# Altium footprint library HANDS-FREEE-PcbLib-V1.11.PcbLib: 211 footprints (part 13 of 14)
Each footprint in its own frame and in the unit in brackets; x right, y up, seen from the top. Pads: shape width x height; smd on the part's side, far side on the other; paste and mask are expansions set on the pad; w line width, h text height; cw(c..) or ccw(c..) is an arc to the next point about the centre after c.
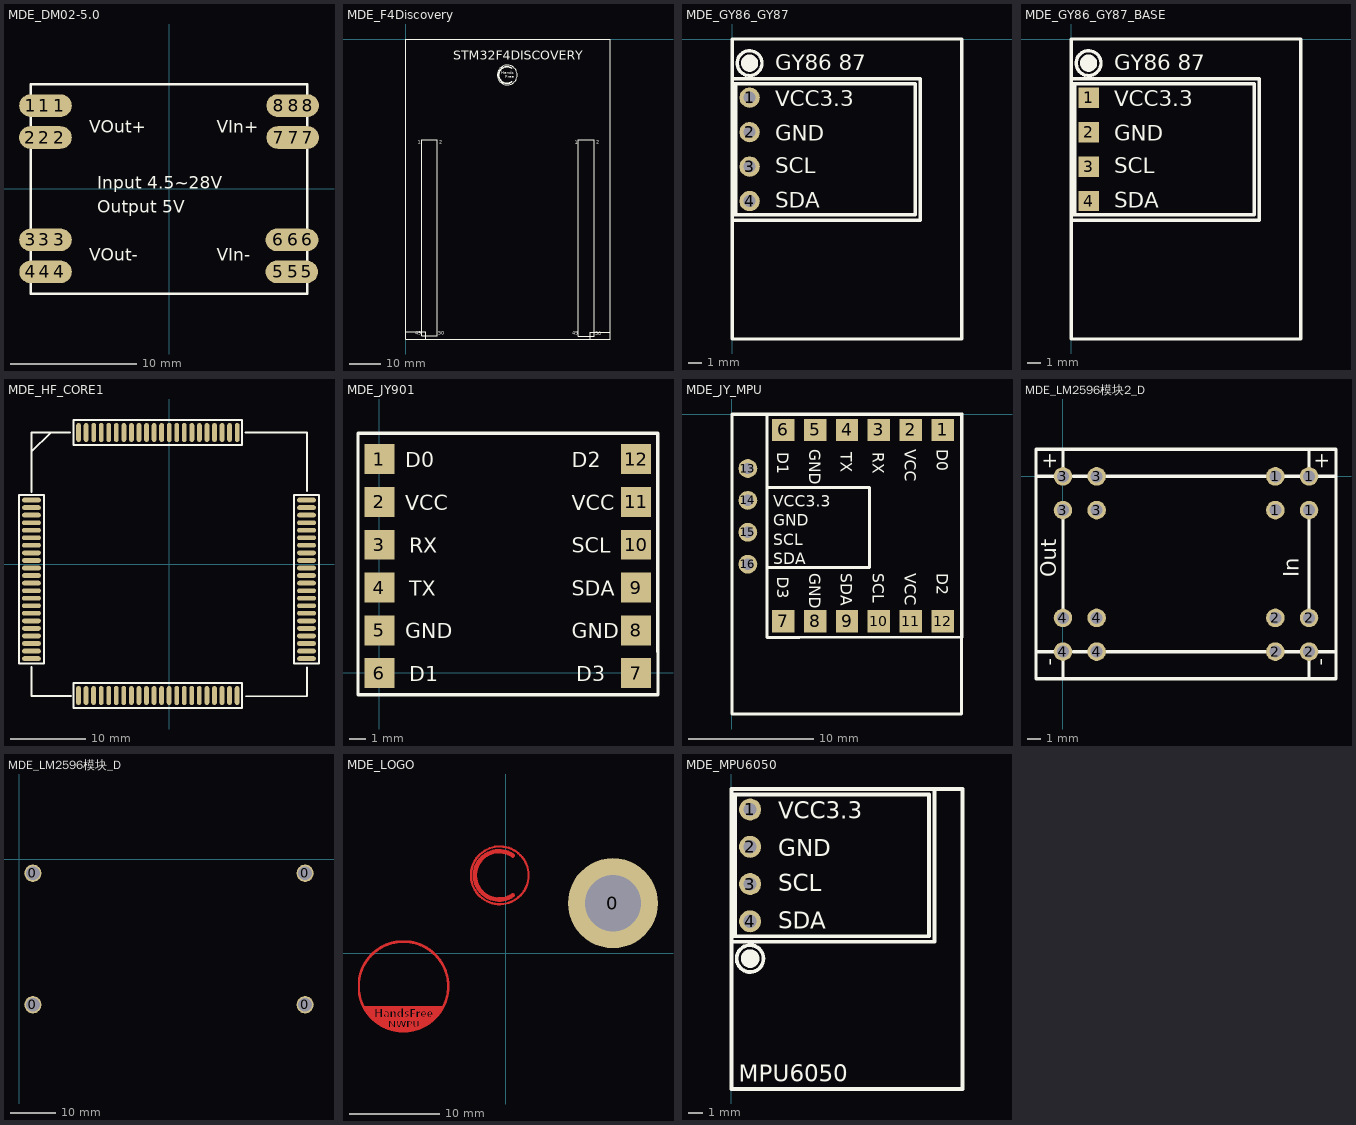
[diagram p12: the footprints below, top view; thin cyan lines are the x and y axes]

## MDE_DM02-5.0 [mm] "U?"
pads (24):
  round 1.8 smd: 1(-11.014,6.613) 2(-11.033,4.073) 3(-11.014,-4.073) 4(-11.013,-6.613) 5(10.959,-6.613) 6(10.982,-4.073) 7(11.033,4.073) 8(11.033,6.613)
  rect 2.2x1.8 smd: 1(-9.923,6.613) 2(-9.923,4.073) 3(-9.922,-4.073) 4(-9.897,-6.613) 5(9.867,-6.613) 6(9.867,-4.073) 7(9.937,4.073) 8(9.937,6.613)
  oval 2x1.8 smd: 1(-8.732,6.613) 2(-8.732,4.073) 3(-8.731,-4.073) 4(-8.731,-6.613) 5(8.678,-6.613) 6(8.678,-4.073) 7(8.748,4.073) 8(8.748,6.613)
Top Layer:
  lines w0.4: 8.748,4.113 9.389,3.471
Top Overlay:
  lines w0.2: 10.983,8.327 -11.014,8.327 -11.014,-8.373 10.986,-8.373 10.986,8.327
  text "VOut-" at -6.35,-5.715 h1
  text "VOut+" at -6.35,4.445 h1
  text "VIn-" at 3.81,-5.715 h1
  text "VIn+" at 3.81,4.445 h1
  text "Input 4.5~28V" at -5.715,0 h1
  text "Output 5V" at -5.715,-1.905 h1

## MDE_F4Discovery [mil]
Top Overlay:
  circle w10: c1290.81,-459 r126.19
  lines w7.87: 200,-3780 400,-3780 400,-1355 400,-1280 200,-1280 200,-1355 200,-3780 ; 2197,-3783 2197,-1358 2197,-1283 2397,-1283 2397,-1358 2397,-3783 2197,-3783
  lines w10: 0,-3730 249.21,-3730 ; 250,-3817.4 250,-3730 ; 2348,-3819.4 2348,-3732 2597.21,-3732 ; 0,-3820 0,0 2600,0 2600,-3820 0,-3820
  lines w20: 1347.87,-546.09 cw(c1287.7,-459.05) 1348.29,-372.3
  text "Hands" at 1212,-449 h35
  text "Free" at 1262,-499 h35
  text "1" at 150,-1352 h78.74
  text "2" at 422,-1352 h78.74
  text "49" at 2117,-3786 h78.74
  text "49" at 117,-3785 h78.74
  text "50" at 410,-3783 h78.74
  text "2" at 2422,-1353 h78.74
  text "1" at 2148,-1359 h78.74
  text "50" at 2409,-3789 h78.74
  text "STM32F4DISCOVERY" at 605,-301 h196.85

## MDE_GY86_GY87 [mil]
pads (4):
  round 59 hole 35.43: 1(50,-170) 2(50,-270) 3(50,-370) 4(50,-470)
Top Overlay:
  circle w10: c50,-70 r36.06
  circle w30: c50,-70 r10
  lines w10: 0,-525 545,-525 545,-115 0,-115 ; 0,-510 530,-510 530,-130 0,-130 ; 10,-510 10,-130 15,-130 ; 0,-870 0,0 665,0 665,-870 0,-870
  text "GY86 87" at 125,-90 h45
  text "SCL" at 125,-390 h45
  text "GND" at 125,-295 h45
  text "VCC3.3" at 125,-195 h45
  text "SDA" at 125,-490 h45

## MDE_GY86_GY87_BASE [mil]
pads (4):
  rect 59x59 smd: 1(50,-170) 2(50,-270) 3(50,-370) 4(50,-470)
Top Overlay:
  circle w10: c50,-70 r36.06
  circle w30: c50,-70 r10
  lines w10: 0,-525 545,-525 545,-115 0,-115 ; 0,-510 530,-510 530,-130 0,-130 ; 10,-510 10,-130 15,-130 ; 0,-870 0,0 665,0 665,-870 0,-870
  text "GY86 87" at 125,-90 h45
  text "SCL" at 125,-390 h45
  text "GND" at 125,-295 h45
  text "VCC3.3" at 125,-195 h45
  text "SDA" at 125,-490 h45

## MDE_HF_CORE1 [mil] "HANDS FREE核心板1代"
pads (88):
  oval 98.43x25 smd: 1(-717,333.49) 2(-717,294.12) 3(-717,254.75) 4(-717,215.38) 5(-717,176.01) 6(-717,136.64) 7(-717,97.27) 8(-717,57.9) 9(-717,18.53) 10(-717,-20.84) 11(-717,-60.21) 12(-717,-99.58) 13(-717,-138.95) 14(-717,-178.32) 15(-717,-217.69) 16(-717,-257.06) 17(-717,-296.43) 18(-717,-335.8) 19(-717,-375.17) 20(-717,-414.54) 21(-717,-453.91) 22(-717,-493.28) 45(717,-493.28) 46(717,-453.91) 47(717,-414.54) 48(717,-375.17) 49(717,-335.8) 50(717,-296.43) 51(717,-257.06) 52(717,-217.69) 53(717,-178.32) 54(717,-138.95) 55(717,-99.58) 56(717,-60.21) 57(717,-20.84) 58(717,18.53) 59(717,57.9) 60(717,97.27) 61(717,136.64) 62(717,176.01) 63(717,215.38) 64(717,254.75) 65(717,294.12) 66(717,333.49)
  oval 25x98.43 smd: 23(-471.77,-685.5) 24(-432.4,-685.5) 25(-393.03,-685.5) 26(-353.66,-685.5) 27(-314.29,-685.5) 28(-274.92,-685.5) 29(-235.55,-685.5) 30(-196.18,-685.5) 31(-156.81,-685.5) 32(-117.44,-685.5) 33(-78.07,-685.5) 34(-38.7,-685.5) 35(0.67,-685.5) 36(40.04,-685.5) 37(79.41,-685.5) 38(118.78,-685.5) 39(158.15,-685.5) 40(197.52,-685.5) 41(236.89,-685.5) 42(276.26,-685.5) 43(315.63,-685.5) 44(355,-685.5) 67(355.36,685.5) 68(315.99,685.5) 69(276.62,685.5) 70(237.25,685.5) 71(197.88,685.5) 72(158.51,685.5) 73(119.14,685.5) 74(79.77,685.5) 75(40.4,685.5) 76(1.03,685.5) 77(-38.34,685.5) 78(-77.71,685.5) 79(-117.08,685.5) 80(-156.45,685.5) 81(-195.82,685.5) 82(-235.19,685.5) 83(-274.56,685.5) 84(-313.93,685.5) 85(-353.3,685.5) 86(-392.67,685.5) 87(-432.04,685.5) 88(-471.41,685.5)
Top Overlay:
  lines w10: -754.5,-518.28 -652,-518.28 -652,359.72 -782,359.72 -782,-518.28 -717,-518.28 ; -717.87,-536.54 -717.87,-688.54 -509.87,-688.54 ; -716.87,375.46 -716.87,685.46 -514.87,685.46 ; -716.87,574.06 -716.87,585.46 -616.87,685.46 ; 380,-723 380,-620.5 -498,-620.5 -498,-750.5 380,-750.5 380,-685.5 ; 380.36,750.5 -497.64,750.5 -497.64,620.5 381.13,620.5 381.13,750.46 ; 399.13,685.46 720.13,685.46 720.13,379.46 ; 402.13,-689.54 720.13,-689.54 720.13,-539.54 ; 679.5,-518.28 782,-518.28 782,359.72 652,359.72 652,-518.28 717,-518.28

## MDE_JY901 [mil]
pads (12):
  rect 70x70 smd: 1(0.63,499.63) 2(0.63,399.63) 3(0.63,299.63) 4(0.63,199.63) 5(0.63,99.63) 6(0.63,-0.37) 7(600.63,-0.37) 8(600.63,99.63) 9(600.63,199.63) 10(600.63,299.63) 11(600.63,399.63) 12(600.63,499.63)
Top Overlay:
  lines w7.87: -49.37,49.63 -49.37,449.63 ; 650.63,449.63 650.63,49.63 651.63,49.63
  lines w8: -49.37,49.63 -49.37,-51.37 651.63,-51.37 651.63,49.63 ; -49.37,449.63 -49.37,560.63 650.63,560.63 650.63,449.63
  text "VCC" at 60.63,380.63 h35
  text "VCC" at 450.63,380.63 h35
  text "GND" at 60.63,80.63 h35
  text "GND" at 450.63,80.63 h35
  text "RX" at 70.63,280.63 h35
  text "TX" at 70.63,180.63 h35
  text "SDA" at 450.63,180.63 h35
  text "SCL" at 450.63,280.63 h35
  text "D0" at 60.63,480.63 h35
  text "D1" at 70.63,-19.37 h35
  text "D2" at 450.63,480.63 h35
  text "D3" at 460.63,-19.37 h35

## MDE_JY_MPU [mil]
pads (16):
  rect 70x70 smd: 1(661,-49) 2(561,-49) 3(461,-49) 4(361,-49) 5(261,-49) 6(161,-49) 7(161,-649) 8(261,-649) 9(361,-649) 10(461,-649) 11(561,-649) 12(661,-649)
  round 59 hole 35.43: 13(50,-170) 14(50,-270) 15(50,-370) 16(50,-470)
Top Overlay:
  lines w7.87: 211,-700 211,-699 611,-699 ; 211,1 611,1
  lines w8: 211,-700 110,-700 110,1 211,1 ; 611,-699 722,-699 722,1 611,1
  lines w10: 70,-940 0,-940 ; 110,-480 432,-480 432,-230 110,-230 ; 0,-940 0,0 720,0 720,-940 0,-940
  text "VCC" at 542,-109 h35
  text "VCC" at 542,-499 h35
  text "GND" at 242,-109 h35
  text "GND" at 242,-499 h35
  text "RX" at 442,-119 h35
  text "TX" at 342,-119 h35
  text "SDA" at 342,-499 h35
  text "SCL" at 442,-499 h35
  text "D0" at 642,-109 h35
  text "D1" at 142,-119 h35
  text "D2" at 642,-499 h35
  text "D3" at 142,-509 h35
  text "SCL" at 130,-410 h35
  text "GND" at 130,-350 h35
  text "VCC3.3" at 130,-290 h35
  text "SDA" at 130,-470 h35

## MDE_LM2596模块2_D [mil]
pads (16):
  round 55 hole 35.6: 1(630,-100) 1(630,0) 1(730,-100) 1(730,0) 2(630,-520) 2(630,-420) 2(730,-520) 2(730,-420) 3(0,-100) 3(0,0) 3(100,-100) 3(100,0) 4(0,-520) 4(0,-420) 4(100,-520) 4(100,-420)
Top Overlay:
  lines w10: -80,-520 0,-520 0,-600 ; -80,0 0,0 0,80 ; 0,-420 0,-100 ; 30,-520 730,-520 ; 30,0 730,0 ; 730,-600 730,-520 ; 730,-420 730,-100 ; 730,80 730,0 ; 810,-520 730,-520 ; 730,0 810,0 ; 810,0 810,-600 -80,-600 -80,80 810,80 810,0
  text "-" at 750,-540 h45
  text "-" at -20,-540 h45
  text "In" at 700,-300 h45
  text "Out" at -20,-300 h45
  text "+" at -20,20 h45
  text "+" at 750,20 h45

## MDE_LM2596模块_D [mil]
pads (4):
  round 150 hole 120: 0(120,-1260) 0(120,-120) 0(2480,-1260) 0(2480,-120)
Bottom Overlay:
  lines w10: 0,-1380 0,0 2600,0 2600,-1380 0,-1380

## MDE_LOGO [mm]
pads (1):
  round 10 hole 6.25: 0(11.938,5.537)
Top Layer:
  circle w0.254: c-0.64,8.636 r3.205
  lines w0.025: -16.383,-4.343 -16.18,-4.343 ; -16.383,-4.318 -16.18,-4.318 ; -16.383,-4.293 -16.18,-4.293 ; -16.383,-4.267 -16.18,-4.267 ; -16.383,-4.242 -16.18,-4.242 ; -16.383,-4.216 -16.18,-4.216 ; -16.383,-4.191 -16.18,-4.191 ; -16.383,-4.166 -16.18,-4.166 ; -16.383,-4.14 -16.205,-4.14 ; -16.383,-4.115 -16.205,-4.115 ; -16.383,-4.089 -16.205,-4.089 ; -16.383,-4.064 -16.205,-4.064 ; -16.383,-4.039 -16.205,-4.039 ; -16.383,-4.013 -16.205,-4.013 ; -16.383,-3.988 -16.205,-3.988 ; -16.383,-3.962 -16.205,-3.962 ; -16.383,-3.937 -16.205,-3.937 ; -16.383,-3.912 -16.205,-3.912 ; -16.383,-3.886 -16.205,-3.886 ; -16.383,-3.861 -16.205,-3.861 ; -16.383,-3.835 -16.205,-3.835 ; -16.383,-3.81 -16.205,-3.81 ; -16.383,-3.785 -16.205,-3.785 ; -16.383,-3.759 -16.205,-3.759 ; -16.383,-3.734 -16.205,-3.734 ; -16.383,-3.708 -16.205,-3.708 ; -16.383,-3.683 -16.205,-3.683 ; -16.383,-3.658 -16.205,-3.658 ; -16.383,-3.632 -16.205,-3.632 ; -16.383,-3.607 -16.205,-3.607 ; -16.383,-3.581 -16.205,-3.581 ; -16.383,-3.556 -16.205,-3.556 ; -16.383,-3.531 -16.205,-3.531 ; -16.383,-3.505 -16.205,-3.505 ; -16.383,-3.48 -16.205,-3.48 ; -16.383,-3.454 -16.205,-3.454 ; -16.383,-3.429 -16.205,-3.429 ; -16.383,-3.404 -16.205,-3.404 ; -16.383,-3.378 -16.205,-3.378 ; -16.383,-3.353 -16.205,-3.353 ; -16.383,-3.327 -16.205,-3.327 ; -16.383,-3.302 -16.205,-3.302 ; -16.383,-3.277 -16.205,-3.277 ; -16.383,-3.251 -16.205,-3.251 ; -16.383,-3.226 -16.205,-3.226 ; -16.383,-3.2 -16.205,-3.2 ; -16.383,-3.175 -16.205,-3.175 ; -16.383,-3.15 -16.18,-3.15 ; -16.383,-3.124 -16.18,-3.124 ; -16.383,-3.099 -16.18,-3.099 ; -16.383,-3.073 -16.18,-3.073 ; -16.383,-3.048 -16.18,-3.048 ; -16.383,-3.023 -16.18,-3.023 ; -16.383,-2.997 -16.18,-2.997 ; -16.383,-2.972 -16.18,-2.972 ; -16.358,-4.521 -16.129,-4.521 ; -16.358,-4.496 -16.154,-4.496 ; -16.358,-4.47 -16.154,-4.47 ; -16.358,-4.445 -16.154,-4.445 ; -16.358,-4.42 -16.154,-4.42 ; -16.358,-4.394 -16.154,-4.394 ; -16.358,-4.369 -16.154,-4.369 ; -16.358,-2.946 -16.154,-2.946 ; -16.358,-2.921 -16.154,-2.921 ; -16.358,-2.896 -16.154,-2.896 ; -16.358,-2.87 -16.154,-2.87 ; -16.358,-2.845 -16.154,-2.845 ; -16.358,-2.819 -16.154,-2.819 ; -16.358,-2.794 -16.129,-2.794 ; -16.332,-4.648 -16.104,-4.648 ; -16.332,-4.623 -16.129,-4.623 ; -16.332,-4.597 -16.129,-4.597 ; -16.332,-4.572 -16.129,-4.572 ; -16.332,-4.547 -16.129,-4.547 ; -16.332,-2.769 -16.129,-2.769 ; -16.332,-2.743 -16.129,-2.743 ; -16.332,-2.718 -16.129,-2.718 ; -16.332,-2.692 -16.129,-2.692 ; -16.332,-2.667 -16.129,-2.667 ; -16.307,-4.775 -16.078,-4.775 ; -16.307,-4.75 -16.104,-4.75 ; -16.307,-4.724 -16.104,-4.724 ; -16.307,-4.699 -16.104,-4.699 ; -16.307,-4.674 -16.104,-4.674 ; -16.307,-2.642 -16.104,-2.642 ; -16.307,-2.616 -16.104,-2.616 ; -16.307,-2.591 -16.104,-2.591 ; -16.307,-2.565 -16.104,-2.565 ; -16.307,-2.54 -16.078,-2.54 ; -16.281,-4.877 -16.053,-4.877 ; -16.281,-4.851 -16.078,-4.851 ; -16.281,-4.826 -16.078,-4.826 ; -16.281,-4.801 -16.078,-4.801 ; -16.281,-2.515 -16.078,-2.515 ; -16.281,-2.489 -16.078,-2.489 ; -16.281,-2.464 -16.078,-2.464 ; -16.281,-2.438 -16.053,-2.438 ; -16.256,-4.978 -16.027,-4.978 ; -16.256,-4.953 -16.053,-4.953 ; -16.256,-4.928 -16.053,-4.928 ; -16.256,-4.902 -16.053,-4.902 ; -16.256,-2.413 -16.053,-2.413 ; -16.256,-2.388 -16.053,-2.388 ; -16.256,-2.362 -16.053,-2.362 ; -16.256,-2.337 -16.027,-2.337 ; -16.231,-5.055 -16.002,-5.055 ; -16.231,-5.029 -16.027,-5.029 ; -16.231,-5.004 -16.027,-5.004 ; -16.231,-2.311 -16.027,-2.311 ; -16.231,-2.286 -16.027,-2.286 ; -16.231,-2.261 -16.002,-2.261 ; -16.205,-5.156 -15.977,-5.156 ; -16.205,-5.131 -16.002,-5.131 ; -16.205,-5.105 -16.002,-5.105 ; -16.205,-5.08 -16.002,-5.08 ; -16.205,-2.235 -16.002,-2.235 ; -16.205,-2.21 -16.002,-2.21 ; -16.205,-2.184 -16.002,-2.184 ; -16.205,-2.159 -15.977,-2.159 ; -16.18,-5.232 -15.951,-5.232 ; -16.18,-5.207 -15.977,-5.207 ; -16.18,-5.182 -15.977,-5.182 ; -16.18,-2.134 -15.977,-2.134 ; -16.18,-2.108 -15.977,-2.108 ; -16.18,-2.083 -15.951,-2.083 ; -16.154,-5.309 -15.926,-5.309 ; -16.154,-5.283 -15.951,-5.283 ; -16.154,-5.258 -15.951,-5.258 ; -16.154,-2.057 -15.951,-2.057 ; -16.154,-2.032 -15.951,-2.032 ; -16.154,-2.007 -15.926,-2.007 ; -16.129,-5.385 -15.9,-5.385 ; -16.129,-5.359 -15.9,-5.359 ; -16.129,-5.334 -15.926,-5.334 ; -16.129,-1.981 -15.926,-1.981 ; -16.129,-1.956 -15.9,-1.956 ; -16.129,-1.93 -15.9,-1.93 ; -16.104,-5.436 -15.875,-5.436 ; -16.104,-5.41 -15.9,-5.41 ; -16.104,-1.905 -15.9,-1.905 ; -16.104,-1.88 -15.875,-1.88 ; -16.078,-5.512 -15.85,-5.512 ; -16.078,-5.486 -15.85,-5.486 ; -16.078,-5.461 -15.875,-5.461 ; -16.078,-1.854 -15.875,-1.854 ; -16.078,-1.829 -15.85,-1.829 ; -16.078,-1.803 -15.85,-1.803 ; -16.053,-5.588 -15.824,-5.588 ; -16.053,-5.563 -15.824,-5.563 ; -16.053,-5.537 -15.85,-5.537 ; -16.053,-1.778 -15.85,-1.778 ; -16.053,-1.753 -15.824,-1.753 ; -16.027,-5.639 -15.799,-5.639 ; -16.027,-5.613 -15.799,-5.613 ; -16.027,-1.727 -15.824,-1.727 ; -16.027,-1.702 -15.799,-1.702 ; -16.027,-1.676 -15.799,-1.676 ; -16.002,-5.69 -15.773,-5.69 ; -16.002,-5.664 -15.799,-5.664 ; -16.002,-1.651 -15.773,-1.651 ; -16.002,-1.626 -15.773,-1.626 ; -15.977,-5.74 -15.748,-5.74 ; -15.977,-5.715 -15.773,-5.715 ; -15.977,-1.6 -15.773,-1.6 ; -15.977,-1.575 -15.748,-1.575 ; -15.951,-5.817 -15.723,-5.817 ; -15.951,-5.791 -15.723,-5.791 ; -15.951,-5.766 -15.748,-5.766 ; -15.951,-1.549 -15.748,-1.549 ; -15.951,-1.524 -15.723,-1.524 ; -15.951,-1.499 -15.723,-1.499 ; -15.926,-5.867 -15.697,-5.867 ; -15.926,-5.842 -15.697,-5.842 ; -15.926,-1.473 -15.697,-1.473 ; -15.926,-1.448 -15.697,-1.448 ; -15.9,-5.918 -6.782,-5.918 ; -15.9,-5.893 -15.672,-5.893 ; -15.9,-1.422 -15.672,-1.422 ; -15.9,-1.397 -15.672,-1.397 ; -15.875,-5.969 -6.807,-5.969 ; -15.875,-5.944 -6.807,-5.944 ; -15.875,-1.372 -15.646,-1.372 ; -15.85,-6.02 -6.833,-6.02 ; -15.85,-5.994 -6.833,-5.994 ; -15.85,-1.346 -15.646,-1.346 ; -15.85,-1.321 -15.621,-1.321 ; -15.824,-6.045 -6.858,-6.045 ; -15.824,-1.295 -15.596,-1.295 ; -15.824,-1.27 -15.596,-1.27 ; -15.799,-6.096 -6.883,-6.096 ; -15.799,-6.071 -6.858,-6.071 ; -15.799,-1.245 -15.57,-1.245 ; -15.799,-1.219 -15.57,-1.219 ; -15.773,-6.147 -11.557,-6.147 ; -15.773,-6.121 -11.557,-6.121 ; -15.773,-1.194 -15.545,-1.194 ; -15.773,-1.168 -15.545,-1.168 ; -15.748,-6.198 -14.478,-6.198 ; -15.748,-6.172 -14.478,-6.172 ; -15.748,-1.143 -15.519,-1.143 ; -15.748,-1.118 -15.494,-1.118 ; -15.723,-6.223 -14.478,-6.223 ; -15.723,-1.092 -15.494,-1.092 ; -15.697,-6.274 -14.478,-6.274 ; -15.697,-6.248 -14.478,-6.248 ; -15.697,-1.067 -15.469,-1.067 ; -15.697,-1.041 -15.443,-1.041 ; -15.672,-6.325 -14.478,-6.325 ; -15.672,-6.299 -14.478,-6.299 ; -15.672,-1.016 -15.443,-1.016 ; -15.672,-0.991 -15.418,-0.991 ; -15.646,-6.35 -14.478,-6.35 ; -15.646,-0.965 -15.418,-0.965 ; -15.621,-6.401 -14.478,-6.401 ; -15.621,-6.375 -14.478,-6.375 ; -15.621,-0.94 -15.392,-0.94 ; -15.621,-0.914 -15.367,-0.914 ; -15.596,-6.426 -14.478,-6.426 ; -15.596,-0.889 -15.342,-0.889 ; -15.57,-6.477 -14.478,-6.477 ; -15.57,-6.452 -14.478,-6.452 ; -15.57,-0.864 -15.342,-0.864 ; -15.57,-0.838 -15.316,-0.838 ; -15.545,-6.502 -14.478,-6.502 ; -15.545,-0.813 -15.291,-0.813 ; -15.519,-6.553 -14.478,-6.553 ; -15.519,-6.528 -14.478,-6.528 ; -15.519,-0.787 -15.265,-0.787 ; -15.519,-0.762 -15.265,-0.762 ; -15.494,-6.579 -14.478,-6.579 ; -15.494,-0.737 -15.24,-0.737 ; -15.469,-6.604 -14.478,-6.604 ; -15.469,-0.711 -15.215,-0.711 ; -15.443,-6.655 -14.478,-6.655 ; -15.443,-6.629 -14.478,-6.629 ; -15.443,-0.686 -15.189,-0.686 ; -15.443,-0.66 -15.189,-0.66 ; -15.418,-6.68 -14.478,-6.68 ; -15.418,-0.635 -15.164,-0.635 ; -15.392,-6.706 -14.478,-6.706 ; -15.392,-0.61 -15.138,-0.61 ; -15.367,-6.756 -14.478,-6.756 ; -15.367,-6.731 -14.478,-6.731 ; -15.367,-0.584 -15.113,-0.584 ; -15.367,-0.559 -15.113,-0.559 ; -15.342,-6.782 -14.478,-6.782 ; -15.342,-0.533 -15.088,-0.533 ; -15.316,-6.833 -14.478,-6.833 ; -15.316,-6.807 -14.478,-6.807 ; -15.316,-0.508 -15.062,-0.508 ; -15.291,-6.858 -14.478,-6.858 ; -15.291,-0.483 -15.037,-0.483 ; -15.291,-0.457 -15.011,-0.457 ; -15.265,-6.883 -14.478,-6.883 ; -15.265,-0.432 -14.986,-0.432 ; -15.24,-6.909 -14.478,-6.909 ; -15.24,-0.406 -14.961,-0.406 ; -15.215,-6.934 -14.478,-6.934 ; -15.215,-0.381 -14.935,-0.381 ; -15.189,-6.96 -14.478,-6.96 ; -15.189,-0.356 -14.91,-0.356 ; -15.164,-7.01 -14.478,-7.01 ; -15.164,-6.985 -14.478,-6.985 ; -15.164,-0.33 -14.884,-0.33 ; -15.138,-7.036 -14.478,-7.036 ; -15.138,-0.305 -14.884,-0.305 ; -15.113,-7.061 -14.478,-7.061 ; -15.113,-0.279 -14.859,-0.279 ; -15.113,-0.254 -14.834,-0.254 ; -15.088,-7.087 -14.478,-7.087 ; -15.088,-0.229 -14.808,-0.229 ; -15.062,-7.112 -7.62,-7.112 ; -15.062,-0.203 -14.783,-0.203 ; -15.037,-7.137 -7.645,-7.137 ; -15.037,-0.178 -14.757,-0.178 ; -15.011,-7.163 -7.671,-7.163 ; -15.011,-0.152 -14.732,-0.152 ; -14.986,-7.188 -7.696,-7.188 ; -14.986,-0.127 -14.707,-0.127 ; -14.961,-7.214 -7.722,-7.214 ; -14.961,-0.102 -14.656,-0.102 ; -14.935,-7.239 -7.747,-7.239 ; -14.935,-0.076 -14.63,-0.076 ; -14.91,-7.264 -7.772,-7.264 ; -14.91,-0.051 -14.605,-0.051 ; -14.884,-7.29 -7.798,-7.29 ; -14.884,-0.025 -14.58,-0.025 ; -14.859,-7.315 -7.823,-7.315 ; -14.859,0 -14.554,0 ; -14.834,-7.341 -7.849,-7.341 ; -14.834,0.025 -14.529,0.025 ; -14.808,-7.366 -7.874,-7.366 ; -14.808,0.051 -14.503,0.051 ; -14.783,-7.391 -7.899,-7.391 ; -14.783,0.076 -14.478,0.076 ; -14.757,-7.417 -7.925,-7.417 ; -14.757,0.102 -14.453,0.102 ; -14.732,-7.442 -7.95,-7.442 ; -14.732,0.127 -14.402,0.127 ; -14.681,-7.468 -7.976,-7.468 ; -14.681,0.152 -14.376,0.152 ; -14.656,-7.493 -12.954,-7.493 ; -14.656,0.178 -14.351,0.178 ; -14.63,-7.518 -12.954,-7.518 ; -14.63,0.203 -14.3,0.203 ; -14.605,-7.544 -12.954,-7.544 ; -14.605,0.229 -14.275,0.229 ; -14.58,-7.569 -12.954,-7.569 ; -14.58,0.254 -14.249,0.254 ; -14.554,-7.595 -12.954,-7.595 ; -14.554,0.279 -14.199,0.279 ; -14.503,-7.62 -12.954,-7.62 ; -14.503,0.305 -14.173,0.305 ; -14.478,-7.645 -12.954,-7.645 ; -14.478,0.33 -14.148,0.33 ; -14.453,-7.671 -12.954,-7.671 ; -14.453,0.356 -14.097,0.356 ; -14.402,-7.696 -12.954,-7.696 ; -14.402,0.381 -14.072,0.381 ; -14.376,-7.722 -12.954,-7.722 ; -14.376,0.406 -14.021,0.406 ; -14.351,-7.747 -12.954,-7.747 ; -14.351,0.432 -13.995,0.432 ; -14.3,-7.772 -12.954,-7.772 ; -14.3,0.457 -13.945,0.457 ; -14.275,-7.798 -12.954,-7.798 ; -14.275,-7.087 -13.894,-7.087 ; -14.275,-7.061 -13.894,-7.061 ; -14.275,-7.036 -13.894,-7.036 ; -14.275,-7.01 -13.894,-7.01 ; -14.275,-6.985 -13.894,-6.985 ; -14.275,-6.96 -13.894,-6.96 ; -14.275,-6.934 -13.894,-6.934 ; -14.275,-6.909 -13.894,-6.909 ; -14.275,-6.883 -13.894,-6.883 ; -14.275,-6.858 -13.894,-6.858 ; -14.275,-6.833 -13.894,-6.833 ; -14.275,-6.807 -13.894,-6.807 ; -14.275,-6.782 -13.894,-6.782 ; -14.275,-6.756 -13.894,-6.756 ; -14.275,-6.731 -13.894,-6.731 ; -14.275,-6.706 -13.894,-6.706 ; -14.275,-6.528 -13.894,-6.528 ; -14.275,-6.502 -13.894,-6.502 ; -14.275,-6.477 -13.894,-6.477 ; -14.275,-6.452 -13.894,-6.452 ; -14.275,-6.426 -13.894,-6.426 ; -14.275,-6.401 -13.894,-6.401 ; -14.275,-6.375 -13.894,-6.375 ; -14.275,-6.35 -13.894,-6.35 ; -14.275,-6.325 -13.894,-6.325 ; -14.275,-6.299 -13.894,-6.299 ; -14.275,-6.274 -13.894,-6.274 ; -14.275,-6.248 -13.894,-6.248 ; -14.275,-6.223 -13.894,-6.223 ; -14.275,-6.198 -13.894,-6.198 ; -14.275,-6.172 -13.894,-6.172 ; -14.275,0.483 -13.919,0.483 ; -14.249,-7.823 -12.954,-7.823 ; -14.249,0.508 -13.868,0.508 ; -14.199,-7.849 -12.954,-7.849 ; -14.199,0.533 -13.843,0.533 ; -14.173,-7.874 -12.954,-7.874 ; -14.173,0.559 -13.792,0.559 ; -14.122,-7.899 -12.954,-7.899 ; -14.122,0.584 -13.741,0.584 ; -14.097,-7.925 -12.954,-7.925 ; -14.097,0.61 -13.691,0.61 ; -14.046,-7.95 -12.954,-7.95 ; -14.046,0.635 -13.665,0.635 ; -14.021,-7.976 -12.954,-7.976 ; -14.021,0.66 -13.614,0.66 ; -13.97,-8.001 -12.954,-8.001 ; -13.97,0.686 -13.564,0.686 ; -13.945,-8.026 -12.954,-8.026 ; -13.919,0.711 -13.513,0.711 ; -13.894,-8.052 -12.954,-8.052 ; -13.894,0.737 -13.462,0.737 ; -13.843,-8.077 -12.954,-8.077 ; -13.843,0.762 -13.411,0.762 ; -13.792,-8.103 -12.954,-8.103 ; -13.792,0.787 -13.335,0.787 ; -13.767,-8.128 -12.954,-8.128 ; -13.741,0.813 -13.284,0.813 ; -13.716,-8.153 -12.954,-8.153 ; -13.691,-7.087 -13.411,-7.087 ; -13.691,-7.061 -13.462,-7.061 ; -13.691,-7.036 -13.487,-7.036 ; -13.691,-7.01 -13.513,-7.01 ; -13.691,-6.985 -13.513,-6.985 ; -13.691,-6.96 -13.538,-6.96 ; -13.691,-6.934 -13.538,-6.934 ; -13.691,-6.909 -13.538,-6.909 ; -13.691,-6.883 -13.538,-6.883 ; -13.691,-6.858 -13.538,-6.858 ; -13.691,-6.833 -13.538,-6.833 ; -13.691,-6.807 -13.513,-6.807 ; -13.691,-6.782 -13.487,-6.782 ; -13.691,-6.756 -13.462,-6.756 ; -13.691,-6.731 -13.437,-6.731 ; -13.691,-6.706 -13.36,-6.706 ; -13.691,-6.68 -13.208,-6.68 ; -13.691,-6.655 -13.106,-6.655 ; -13.691,-6.629 -13.132,-6.629 ; -13.691,-6.604 -13.462,-6.604 ; -13.691,-6.579 -13.462,-6.579 ; -13.691,-6.553 -13.462,-6.553 ; -13.691,-6.528 -13.462,-6.528 ; -13.691,-6.502 -13.462,-6.502 ; -13.691,-6.477 -13.462,-6.477 ; -13.691,-6.452 -13.437,-6.452 ; -13.691,-6.426 -13.335,-6.426 ; -13.691,-6.401 -11.557,-6.401 ; -13.691,-6.375 -11.557,-6.375 ; -13.691,-6.35 -11.557,-6.35 ; -13.691,-6.325 -11.557,-6.325 ; -13.691,-6.299 -11.557,-6.299 ; -13.691,-6.274 -11.557,-6.274 ; -13.691,-6.248 -11.557,-6.248 ; -13.691,-6.223 -11.557,-6.223 ; -13.691,-6.198 -11.557,-6.198 ; -13.691,-6.172 -11.557,-6.172 ; -13.691,0.838 -13.233,0.838 ; -13.665,-8.179 -12.954,-8.179 ; -13.64,0.864 -13.157,0.864 ; -13.614,-8.204 -12.954,-8.204 ; -13.614,0.889 -13.106,0.889 ; -13.564,-8.23 -12.954,-8.23 ; -13.564,0.914 -13.03,0.914 ; -13.513,-8.255 -9.169,-8.255 ; -13.487,0.94 -12.979,0.94 ; -13.437,-8.28 -9.22,-8.28 ; -13.437,-6.604 -13.132,-6.604 ; -13.437,0.965 -12.903,0.965 ; -13.411,-6.579 -13.132,-6.579 ; -13.386,-8.306 -9.296,-8.306 ; -13.386,0.991 -12.827,0.991 ; -13.36,-6.909 -13.132,-6.909 ; -13.36,-6.883 -13.132,-6.883 ; -13.36,-6.858 -13.132,-6.858 ; -13.335,-8.331 -9.347,-8.331 ; -13.335,-6.934 -13.157,-6.934 ; -13.335,-6.833 -13.106,-6.833 ; -13.335,-6.553 -13.183,-6.553 ; -13.335,1.016 -12.725,1.016 ; -13.31,-6.96 -13.208,-6.96 ; -13.31,-6.807 -13.106,-6.807 ; -13.284,-8.357 -9.398,-8.357 ; -13.259,-7.087 -13.132,-7.087 ; -13.259,1.041 -12.649,1.041 ; -13.208,-8.382 -9.474,-8.382 ; -13.208,-7.061 -13.132,-7.061 ; -13.208,1.067 -12.548,1.067 ; -13.157,-8.407 -9.525,-8.407 ; -13.157,-7.036 -13.132,-7.036 ; -13.157,-7.01 -13.132,-7.01 ; -13.132,-6.782 -13.106,-6.782 ; -13.132,-6.426 -12.802,-6.426 ; -13.132,1.092 -12.446,1.092 ; -13.081,-8.433 -9.601,-8.433 ; -13.081,1.118 -12.319,1.118 ; -13.056,-6.452 -12.802,-6.452 ; -13.03,-6.477 -12.802,-6.477 ; -13.005,-8.458 -9.677,-8.458 ; -13.005,-6.502 -12.802,-6.502 ; -13.005,1.143 -12.192,1.143 ; -12.979,-6.579 -12.802,-6.579 ; -12.979,-6.553 -12.802,-6.553 ; -12.979,-6.528 -12.802,-6.528 ; -12.954,-7.087 -12.802,-7.087 ; -12.954,-7.061 -12.802,-7.061 ; -12.954,-7.036 -12.802,-7.036 ; -12.954,-7.01 -12.802,-7.01 ; -12.954,-6.985 -12.802,-6.985 ; -12.954,-6.96 -12.802,-6.96 ; -12.954,-6.934 -12.802,-6.934 ; -12.954,-6.909 -12.802,-6.909 ; -12.954,-6.883 -12.802,-6.883 ; -12.954,-6.858 -12.802,-6.858 ; -12.954,-6.833 -12.802,-6.833 ; -12.954,-6.807 -12.802,-6.807 ; -12.954,-6.782 -12.802,-6.782 ; -12.954,-6.756 -12.802,-6.756 ; -12.954,-6.731 -12.802,-6.731 ; -12.954,-6.706 -12.802,-6.706 ; -12.954,-6.68 -12.802,-6.68 ; -12.954,-6.655 -12.802,-6.655 ; -12.954,-6.629 -12.802,-6.629 ; -12.954,-6.604 -12.802,-6.604 ; -12.929,-8.484 -9.754,-8.484 ; -12.929,1.168 -12.04,1.168 ; -12.852,-8.509 -9.83,-8.509 ; -12.852,1.194 -11.836,1.194 ; -12.776,-8.23 -12.421,-8.23 ; -12.776,-8.204 -12.421,-8.204 ; -12.776,-8.179 -12.446,-8.179 ; -12.776,-8.153 -12.471,-8.153 ; -12.776,-8.128 -12.497,-8.128 ; -12.776,-8.103 -12.497,-8.103 ; -12.776,-8.077 -12.522,-8.077 ; -12.776,-8.052 -12.548,-8.052 ; -12.776,-8.026 -12.573,-8.026 ; -12.776,-8.001 -12.598,-8.001 ; -12.776,-7.976 -12.598,-7.976 ; -12.776,-7.95 -12.624,-7.95 ; -12.776,-7.925 -12.624,-7.925 ; -12.776,-7.899 -12.649,-7.899 ; -12.776,-7.874 -12.675,-7.874 ; -12.776,-7.849 -12.675,-7.849 ; -12.776,-7.823 -12.725,-7.823 ; -12.776,-7.798 -12.725,-7.798 ; -12.776,-7.772 -12.725,-7.772 ; -12.776,-7.747 -12.751,-7.747 ; -12.751,-8.534 -9.906,-8.534 ; -12.751,-7.493 -12.395,-7.493 ; -12.751,1.219 -9.931,1.219 ; -12.725,-7.544 -12.395,-7.544 ; -12.725,-7.518 -12.395,-7.518 ; -12.7,-7.595 -12.395,-7.595 ; -12.7,-7.569 -12.395,-7.569 ; -12.675,-8.56 -10.008,-8.56 ; -12.675,-7.62 -12.395,-7.62 ; -12.675,1.245 -10.008,1.245 ; -12.649,-7.645 -12.395,-7.645 ; -12.624,-7.722 -12.395,-7.722 ; -12.624,-7.696 -12.395,-7.696 ; -12.624,-7.671 -12.395,-7.671 ; -12.598,-7.747 -12.395,-7.747 ; -12.598,-7.087 -12.37,-7.087 ; -12.598,-7.061 -12.37,-7.061 ; -12.598,-7.036 -12.37,-7.036 ; -12.598,-7.01 -12.37,-7.01 ; -12.598,-6.985 -12.37,-6.985 ; -12.598,-6.96 -12.37,-6.96 ; -12.598,-6.934 -12.37,-6.934 ; -12.598,-6.909 -12.37,-6.909 ; -12.598,-6.883 -12.37,-6.883 ; -12.598,-6.858 -12.37,-6.858 ; -12.598,-6.833 -12.37,-6.833 ; -12.598,-6.807 -12.37,-6.807 ; -12.598,-6.782 -12.37,-6.782 ; -12.598,-6.756 -12.37,-6.756 ; -12.598,-6.731 -12.37,-6.731 ; -12.598,-6.706 -12.37,-6.706 ; -12.598,-6.68 -12.37,-6.68 ; -12.598,-6.655 -12.37,-6.655 ; -12.598,-6.502 -12.573,-6.502 ; -12.598,-6.477 -12.548,-6.477 ; -12.598,-6.452 -12.522,-6.452 ; -12.598,-6.426 -12.471,-6.426 ; -12.573,-8.585 -10.109,-8.585 ; -12.573,-7.772 -12.395,-7.772 ; -12.573,-6.629 -12.395,-6.629 ; -12.573,1.27 -10.109,1.27 ; -12.548,-7.823 -12.395,-7.823 ; -12.548,-7.798 -12.395,-7.798 ; -12.548,-6.604 -12.395,-6.604 ; -12.522,-6.579 -12.421,-6.579 ; -12.497,-7.874 -12.395,-7.874 ; -12.497,-7.849 -12.395,-7.849 ; -12.471,-8.611 -10.211,-8.611 ; -12.471,-7.899 -12.395,-7.899 ; -12.471,1.295 -10.211,1.295 ; -12.446,-7.95 -12.395,-7.95 ; -12.446,-7.925 -12.395,-7.925 ; -12.421,-8.001 -12.395,-8.001 ; -12.421,-7.976 -12.395,-7.976 ; -12.344,-8.636 -10.312,-8.636 ; -12.344,1.321 -10.338,1.321 ; -12.294,-6.426 -11.836,-6.426 ; -12.243,-8.23 -11.938,-8.23 ; -12.243,-8.204 -11.938,-8.204 ; -12.243,-8.179 -11.963,-8.179 ; -12.243,-8.153 -11.963,-8.153 ; -12.243,-8.128 -11.963,-8.128 ; -12.243,-8.103 -11.989,-8.103 ; -12.243,-8.077 -11.989,-8.077 ; -12.243,-8.052 -11.989,-8.052 ; -12.243,-8.026 -12.014,-8.026 ; -12.243,-8.001 -12.014,-8.001 ; -12.243,-7.976 -12.014,-7.976 ; -12.243,-7.95 -12.014,-7.95 ; -12.243,-7.925 -12.014,-7.925 ; -12.243,-7.899 -12.014,-7.899 ; -12.243,-7.874 -12.04,-7.874 ; -12.243,-7.849 -12.04,-7.849 ; -12.243,-7.823 -12.04,-7.823 ; -12.243,-7.798 -12.04,-7.798 ; -12.243,-7.772 -12.04,-7.772 ; -12.243,-7.747 -12.04,-7.747 ; -12.243,-7.722 -12.065,-7.722 ; -12.243,-7.696 -12.065,-7.696 ; -12.243,-7.671 -12.065,-7.671 ; -12.243,-7.645 -12.09,-7.645 ; -12.243,-7.62 -12.09,-7.62 ; -12.243,-7.595 -12.09,-7.595 ; -12.243,-7.569 -12.116,-7.569 ; -12.243,-7.544 -12.116,-7.544 ; -12.243,-7.518 -12.141,-7.518 ; -12.243,-7.493 -12.141,-7.493 ; -12.243,-6.452 -11.887,-6.452 ; -12.217,-8.661 -10.465,-8.661 ; -12.217,-6.502 -11.938,-6.502 ; -12.217,-6.477 -11.913,-6.477 ; -12.217,1.346 -10.465,1.346 ; -12.192,-6.553 -11.989,-6.553 ; -12.192,-6.528 -11.963,-6.528 ; -12.167,-7.087 -11.862,-7.087 ; -12.167,-7.061 -11.913,-7.061 ; -12.167,-7.036 -11.938,-7.036 ; -12.167,-7.01 -11.963,-7.01 ; -12.167,-6.985 -11.989,-6.985 ; -12.167,-6.96 -11.989,-6.96 ; -12.167,-6.934 -12.014,-6.934 ; -12.167,-6.909 -12.014,-6.909 ; -12.167,-6.883 -12.04,-6.883 ; -12.167,-6.858 -12.04,-6.858 ; -12.167,-6.833 -12.04,-6.833 ; -12.167,-6.807 -12.04,-6.807 ; -12.167,-6.782 -12.04,-6.782 ; -12.167,-6.756 -12.04,-6.756 ; -12.167,-6.731 -12.04,-6.731 ; -12.167,-6.706 -12.04,-6.706 ; -12.167,-6.68 -12.04,-6.68 ; -12.167,-6.655 -12.014,-6.655 ; -12.167,-6.629 -12.014,-6.629 ; -12.167,-6.604 -12.014,-6.604 ; -12.167,-6.579 -11.989,-6.579 ; -12.065,-8.687 -10.617,-8.687 ; -12.04,1.372 -10.643,1.372 ; -11.963,-7.518 -11.684,-7.518 ; -11.963,-7.493 -11.684,-7.493 ; -11.938,-7.62 -11.684,-7.62 ; -11.938,-7.595 -11.684,-7.595 ; -11.938,-7.569 -11.684,-7.569 ; -11.938,-7.544 -11.684,-7.544 ; -11.913,-7.722 -11.735,-7.722 ; -11.913,-7.696 -11.709,-7.696 ; -11.913,-7.671 -11.709,-7.671 ; -11.913,-7.645 -11.709,-7.645 ; -11.887,-7.899 -11.786,-7.899 ; -11.887,-7.874 -11.786,-7.874 ; -11.887,-7.849 -11.76,-7.849 ; -11.887,-7.823 -11.76,-7.823 ; -11.887,-7.798 -11.76,-7.798 ; -11.887,-7.772 -11.735,-7.772 ; -11.887,-7.747 -11.735,-7.747 ; -11.862,-8.712 -10.82,-8.712 ; -11.862,-7.976 -11.811,-7.976 ; -11.862,-7.95 -11.811,-7.95 ; -11.862,-7.925 -11.786,-7.925 ; -11.836,-8.001 -11.811,-8.001 ; -11.836,-6.833 -11.557,-6.833 ; -11.836,-6.807 -11.557,-6.807 ; -11.836,-6.782 -11.557,-6.782 ; -11.836,-6.756 -11.557,-6.756 ; -11.836,-6.731 -11.557,-6.731 ; -11.836,-6.706 -11.557,-6.706 ; -11.836,-6.68 -11.557,-6.68 ; -11.836,1.397 -10.846,1.397 ; -11.811,-6.883 -11.582,-6.883 ; -11.811,-6.858 -11.582,-6.858 ; -11.811,-6.655 -11.557,-6.655 ; -11.811,-6.629 -11.582,-6.629 ; -11.786,-6.909 -11.608,-6.909 ; -11.786,-6.604 -11.608,-6.604 ; -11.76,-6.934 -11.633,-6.934 ; -11.76,-6.579 -11.633,-6.579 ; -11.709,-8.23 -11.405,-8.23 ; -11.709,-8.204 -11.43,-8.204 ; -11.709,-8.179 -11.43,-8.179 ; -11.684,-8.153 -11.43,-8.153 ; -11.684,-8.128 -11.455,-8.128 ; -11.684,-8.103 -11.455,-8.103 ; -11.684,-8.077 -11.455,-8.077 ; -11.684,-8.052 -11.481,-8.052 ; -11.684,-8.026 -11.481,-8.026 ; -11.684,-7.087 -11.557,-7.087 ; -11.659,-8.001 -11.481,-8.001 ; -11.659,-7.976 -11.481,-7.976 ; -11.659,-6.426 -11.557,-6.426 ; -11.633,-7.95 -11.506,-7.95 ; -11.633,-7.925 -11.506,-7.925 ; -11.633,-7.899 -11.506,-7.899 ; -11.633,-7.874 -11.506,-7.874 ; -11.633,-7.061 -11.557,-7.061 ; -11.608,-7.849 -11.506,-7.849 ; -11.608,-7.823 -11.506,-7.823 ; -11.608,-7.036 -11.557,-7.036 ; -11.608,-6.452 -11.557,-6.452 ; -11.582,-7.798 -11.532,-7.798 ; -11.582,-7.772 -11.532,-7.772 ; -11.582,-7.747 -11.532,-7.747 ; -11.582,-7.01 -11.557,-7.01 ; -11.582,-6.477 -11.557,-6.477 ; -11.481,-7.518 -11.201,-7.518 ; -11.481,-7.493 -11.201,-7.493 ; -11.455,-7.595 -11.227,-7.595 ; -11.455,-7.569 -11.227,-7.569 ; -11.455,-7.544 -11.227,-7.544 ; -11.43,-7.671 -11.252,-7.671 ; -11.43,-7.645 -11.252,-7.645 ; -11.43,-7.62 -11.227,-7.62 ; -11.405,-7.747 -11.278,-7.747 ; -11.405,-7.722 -11.252,-7.722 ; -11.405,-7.696 -11.252,-7.696 ; -11.379,-7.823 -11.278,-7.823 ; -11.379,-7.798 -11.278,-7.798 ; -11.379,-7.772 -11.278,-7.772 ; -11.354,-7.925 -11.328,-7.925 ; -11.354,-7.899 -11.303,-7.899 ; -11.354,-7.874 -11.303,-7.874 ; -11.354,-7.849 -11.303,-7.849 ; -11.354,-7.087 -11.125,-7.087 ; -11.354,-7.061 -11.201,-7.061 ; -11.354,-7.036 -11.201,-7.036 ; -11.354,-7.01 -11.201,-7.01 ; -11.354,-6.985 -11.201,-6.985 ; -11.354,-6.96 -11.201,-6.96 ; -11.354,-6.934 -11.201,-6.934 ; -11.354,-6.909 -10.897,-6.909 ; -11.354,-6.883 -10.897,-6.883 ; -11.354,-6.858 -10.922,-6.858 ; -11.354,-6.833 -10.973,-6.833 ; -11.354,-6.807 -11.049,-6.807 ; -11.354,-6.782 -11.1,-6.782 ; -11.354,-6.756 -11.151,-6.756 ; -11.354,-6.731 -11.176,-6.731 ; -11.354,-6.706 -11.176,-6.706 ; -11.354,-6.68 -11.201,-6.68 ; -11.354,-6.655 -11.201,-6.655 ; -11.354,-6.629 -11.201,-6.629 ; -11.354,-6.604 -11.201,-6.604 ; -11.354,-6.579 -11.201,-6.579 ; -11.354,-6.553 -11.201,-6.553 ; -11.354,-6.528 -11.176,-6.528 ; -11.354,-6.502 -11.176,-6.502 ; -11.354,-6.477 -11.151,-6.477 ; -11.354,-6.452 -11.1,-6.452 ; -11.354,-6.426 -11.049,-6.426 ; -11.354,-6.401 -10.566,-6.401 ; -11.354,-6.375 -10.566,-6.375 ; -11.354,-6.35 -10.566,-6.35 ; -11.354,-6.325 -10.566,-6.325 ; -11.354,-6.299 -10.566,-6.299 ; -11.354,-6.274 -10.566,-6.274 ; -11.354,-6.248 -10.566,-6.248 ; -11.354,-6.223 -10.566,-6.223 ; -11.354,-6.198 -10.566,-6.198 ; -11.354,-6.172 -10.566,-6.172 ; -11.354,-6.147 -6.909,-6.147 ; -11.354,-6.121 -6.909,-6.121 ; -11.227,-8.23 -10.947,-8.23 ; -11.227,-8.204 -10.947,-8.204 ; -11.227,-8.179 -10.947,-8.179 ; -11.201,-8.153 -10.947,-8.153 ; -11.201,-8.128 -10.947,-8.128 ; -11.201,-8.103 -10.947,-8.103 ; -11.201,-8.077 -10.947,-8.077 ; -11.176,-8.052 -10.947,-8.052 ; -11.176,-8.026 -10.947,-8.026 ; -11.176,-6.934 -10.897,-6.934 ; -11.151,-8.001 -10.947,-8.001 ; -11.151,-7.976 -10.947,-7.976 ; -11.151,-7.95 -10.947,-7.95 ; -11.125,-7.925 -10.947,-7.925 ; -11.125,-7.899 -10.947,-7.899 ; -11.125,-7.874 -10.947,-7.874 ; -11.125,-7.849 -10.947,-7.849 ; -11.125,-7.823 -10.947,-7.823 ; -11.125,-7.798 -10.947,-7.798 ; -11.125,-7.772 -10.947,-7.772 ; -11.1,-7.747 -10.947,-7.747 ; -11.1,-7.722 -10.947,-7.722 ; -11.1,-7.696 -10.947,-7.696 ; -11.1,-6.96 -10.922,-6.96 ; -11.074,-7.671 -10.947,-7.671 ; -11.074,-7.645 -10.947,-7.645 ; -11.049,-7.62 -10.947,-7.62 ; -11.049,-7.595 -10.947,-7.595 ; -11.049,-7.569 -10.947,-7.569 ; -11.049,-7.544 -10.947,-7.544 ; -11.024,-7.518 -10.947,-7.518 ; -11.024,-7.493 -10.947,-7.493 ; -11.024,-6.604 -10.566,-6.604 ; -11.024,-6.579 -10.795,-6.579 ; -10.998,-6.629 -10.566,-6.629 ; -10.998,-6.553 -10.846,-6.553 ; -10.973,-6.655 -10.566,-6.655 ; -10.897,-7.087 -10.566,-7.087 ; -10.897,-6.68 -10.566,-6.68 ; -10.846,-6.706 -10.566,-6.706 ; -10.846,1.194 -9.83,1.194 ; -10.82,-7.061 -10.566,-7.061 ; -10.82,-6.426 -10.566,-6.426 ; -10.795,-7.036 -10.566,-7.036 ; -10.795,-6.731 -10.566,-6.731 ; -10.77,-7.01 -10.566,-7.01 ; -10.77,-6.756 -10.566,-6.756 ; -10.77,-6.579 -10.566,-6.579 ; -10.77,-6.553 -10.566,-6.553 ; -10.77,-6.528 -10.566,-6.528 ; -10.77,-6.502 -10.566,-6.502 ; -10.77,-6.477 -10.566,-6.477 ; -10.77,-6.452 -10.566,-6.452 ; -10.744,-8.23 -10.008,-8.23 ; -10.744,-8.204 -10.084,-8.204 ; -10.744,-8.179 -10.135,-8.179 ; -10.744,-8.153 -10.185,-8.153 ; -10.744,-8.128 -10.211,-8.128 ; -10.744,-8.103 -10.211,-8.103 ; -10.744,-8.077 -10.211,-8.077 ; -10.744,-8.052 -10.211,-8.052 ; -10.744,-8.026 -10.236,-8.026 ; -10.744,-8.001 -10.236,-8.001 ; -10.744,-7.976 -10.236,-7.976 ; -10.744,-7.823 -10.592,-7.823 ; -10.744,-7.798 -10.566,-7.798 ; -10.744,-7.772 -10.541,-7.772 ; -10.744,-7.747 -10.541,-7.747 ; -10.744,-7.722 -10.541,-7.722 ; -10.744,-7.696 -10.541,-7.696 ; -10.744,-7.671 -10.541,-7.671 ; -10.744,-7.645 -10.566,-7.645 ; -10.744,-7.62 -10.617,-7.62 ; -10.744,-6.985 -10.566,-6.985 ; -10.744,-6.96 -10.566,-6.96 ; -10.744,-6.807 -10.566,-6.807 ; -10.744,-6.782 -10.566,-6.782 ; -10.719,-6.934 -10.566,-6.934 ; -10.719,-6.909 -10.566,-6.909 ; -10.719,-6.883 -10.566,-6.883 ; -10.719,-6.858 -10.566,-6.858 ; -10.719,-6.833 -10.566,-6.833 ; -10.643,1.168 -9.754,1.168 ; -10.566,-7.493 -10.236,-7.493 ; -10.516,-7.95 -10.236,-7.95 ; -10.49,-7.518 -10.236,-7.518 ; -10.49,1.143 -9.677,1.143 ; -10.465,-7.925 -10.236,-7.925 ; -10.439,-7.899 -10.236,-7.899 ; -10.414,-7.874 -10.236,-7.874 ; -10.414,-7.544 -10.236,-7.544 ; -10.389,-7.849 -10.236,-7.849 ; -10.389,-7.823 -10.236,-7.823 ; -10.389,-7.798 -10.236,-7.798 ; -10.389,-7.62 -10.236,-7.62 ; -10.389,-7.595 -10.236,-7.595 ; -10.389,-7.569 -10.236,-7.569 ; -10.363,-7.772 -10.236,-7.772 ; -10.363,-7.747 -10.236,-7.747 ; -10.363,-7.722 -10.236,-7.722 ; -10.363,-7.696 -10.236,-7.696 ; -10.363,-7.671 -10.236,-7.671 ; -10.363,-7.645 -10.236,-7.645 ; -10.363,-7.087 -9.906,-7.087 ; -10.363,-7.061 -9.906,-7.061 ; -10.363,-7.036 -9.906,-7.036 ; -10.363,-7.01 -9.906,-7.01 ; -10.363,-6.985 -9.906,-6.985 ; -10.363,-6.96 -9.906,-6.96 ; -10.363,-6.934 -9.906,-6.934 ; -10.363,-6.909 -9.906,-6.909 ; -10.363,-6.883 -9.906,-6.883 ; -10.363,-6.858 -9.906,-6.858 ; -10.363,-6.833 -9.906,-6.833 ; -10.363,-6.807 -9.906,-6.807 ; -10.363,-6.782 -9.906,-6.782 ; -10.363,-6.756 -9.906,-6.756 ; -10.363,-6.731 -9.906,-6.731 ; -10.363,-6.553 -9.906,-6.553 ; -10.363,-6.528 -9.906,-6.528 ; -10.363,-6.502 -9.906,-6.502 ; -10.363,-6.477 -9.906,-6.477 ; -10.363,-6.452 -9.906,-6.452 ; -10.363,-6.426 -9.906,-6.426 ; -10.363,-6.401 -7.061,-6.401 ; -10.363,-6.375 -7.061,-6.375 ; -10.363,-6.35 -7.036,-6.35 ; -10.363,-6.325 -7.01,-6.325 ; -10.338,1.118 -9.601,1.118 ; -10.236,1.092 -9.55,1.092 ; -10.135,1.067 -9.474,1.067 ; -10.058,-8.001 -9.804,-8.001 ; -10.058,-7.976 -9.804,-7.976 ; -10.058,-7.95 -9.804,-7.95 ; -10.058,-7.925 -9.804,-7.925 ; -10.058,-7.899 -9.804,-7.899 ; -10.058,-7.874 -9.804,-7.874 ; -10.058,-7.849 -9.804,-7.849 ; -10.058,-7.823 -9.804,-7.823 ; -10.058,-7.798 -9.804,-7.798 ; -10.058,-7.772 -9.804,-7.772 ; -10.058,-7.747 -9.804,-7.747 ; -10.058,-7.722 -9.804,-7.722 ; -10.058,-7.696 -9.804,-7.696 ; -10.058,-7.671 -9.804,-7.671 ; -10.058,-7.645 -9.804,-7.645 ; -10.058,-7.62 -9.804,-7.62 ; -10.058,-7.595 -9.804,-7.595 ; -10.058,-7.569 -9.804,-7.569 ; -10.058,-7.544 -9.804,-7.544 ; -10.058,-7.518 -9.804,-7.518 ; -10.058,-7.493 -9.804,-7.493 ; -10.058,-6.706 -9.906,-6.706 ; -10.058,-6.68 -9.906,-6.68 ; -10.058,-6.655 -9.906,-6.655 ; -10.058,-6.629 -9.906,-6.629 ; -10.058,-6.604 -9.906,-6.604 ; -10.058,-6.579 -9.906,-6.579 ; -10.033,-8.052 -9.83,-8.052 ; -10.033,-8.026 -9.83,-8.026 ; -10.033,-6.299 -7.01,-6.299 ; -10.033,-6.274 -6.985,-6.274 ; -10.033,-6.248 -6.96,-6.248 ; -10.033,-6.223 -6.96,-6.223 ; -10.033,-6.198 -6.934,-6.198 ; -10.033,-6.172 -6.934,-6.172 ; -10.033,1.041 -9.423,1.041 ; -10.008,-8.077 -9.83,-8.077 ; -9.982,-8.103 -9.881,-8.103 ; -9.957,1.016 -9.347,1.016 ; -9.855,0.991 -9.296,0.991 ; -9.83,-8.23 -9.119,-8.23 ; -9.779,-8.204 -9.068,-8.204 ; -9.779,0.965 -9.246,0.965 ; -9.728,-8.179 -9.017,-8.179 ; -9.703,-7.087 -9.195,-7.087 ; -9.703,-7.061 -9.271,-7.061 ; -9.703,-7.036 -9.322,-7.036 ; -9.703,-7.01 -9.347,-7.01 ; -9.703,-6.985 -9.347,-6.985 ; -9.703,-6.96 -9.373,-6.96 ; -9.703,-6.934 -9.398,-6.934 ; -9.703,-6.909 -9.398,-6.909 ; -9.703,-6.883 -9.398,-6.883 ; -9.703,-6.858 -9.423,-6.858 ; -9.703,-6.833 -9.423,-6.833 ; -9.703,-6.807 -9.423,-6.807 ; -9.703,-6.782 -9.423,-6.782 ; -9.703,-6.756 -9.423,-6.756 ; -9.703,-6.731 -9.423,-6.731 ; -9.703,-6.706 -9.423,-6.706 ; -9.703,-6.528 -9.677,-6.528 ; -9.703,-6.502 -9.677,-6.502 ; -9.703,-6.477 -9.652,-6.477 ; -9.703,-6.452 -9.627,-6.452 ; -9.703,-6.426 -9.601,-6.426 ; -9.703,0.94 -9.169,0.94 ; -9.677,-8.153 -8.966,-8.153 ; -9.677,-8.128 -8.915,-8.128 ; -9.677,-6.68 -9.423,-6.68 ; -9.677,-6.655 -9.398,-6.655 ; -9.652,-8.103 -8.89,-8.103 ; -9.652,-8.077 -8.839,-8.077 ; -9.652,-8.052 -8.788,-8.052 ; -9.652,-8.026 -8.738,-8.026 ; -9.652,-6.629 -9.398,-6.629 ; -9.652,0.914 -9.119,0.914 ; -9.627,-8.001 -8.712,-8.001 ; -9.627,-7.976 -8.661,-7.976 ; -9.627,-7.95 -8.636,-7.95 ; -9.627,-7.925 -8.585,-7.925 ; -9.627,-7.899 -8.534,-7.899 ; -9.627,-7.874 -8.509,-7.874 ; -9.627,-7.849 -8.458,-7.849 ; -9.627,-7.823 -8.433,-7.823 ; -9.627,-7.798 -8.407,-7.798 ; -9.627,-7.772 -8.357,-7.772 ; -9.627,-7.747 -8.331,-7.747 ; -9.627,-7.722 -8.306,-7.722 ; -9.627,-7.696 -8.255,-7.696 ; -9.627,-7.671 -8.23,-7.671 ; -9.627,-7.645 -8.204,-7.645 ; -9.627,-7.62 -8.153,-7.62 ; -9.627,-7.595 -8.128,-7.595 ; -9.627,-7.569 -8.103,-7.569 ; -9.627,-7.544 -8.077,-7.544 ; -9.627,-7.518 -8.052,-7.518 ; -9.627,-7.493 -8.001,-7.493 ; -9.627,-6.604 -9.5,-6.604 ; -9.576,0.889 -9.068,0.889 ; -9.525,0.864 -9.017,0.864 ; -9.474,-6.604 -9.398,-6.604 ; -9.474,-6.579 -9.373,-6.579 ; -9.474,-6.553 -9.373,-6.553 ; -9.474,-6.528 -9.347,-6.528 ; -9.474,-6.502 -9.322,-6.502 ; -9.474,-6.477 -9.296,-6.477 ; -9.474,-6.452 -9.246,-6.452 ; -9.474,-6.426 -9.195,-6.426 ; -9.449,0.838 -8.966,0.838 ; -9.398,0.813 -8.941,0.813 ; -9.347,0.787 -8.89,0.787 ; -9.271,0.762 -8.839,0.762 ; -9.22,-6.858 -8.712,-6.858 ; -9.22,-6.833 -8.712,-6.833 ; -9.22,-6.68 -8.992,-6.68 ; -9.22,-6.655 -8.992,-6.655 ; -9.22,0.737 -8.788,0.737 ; -9.195,-6.909 -8.687,-6.909 ; -9.195,-6.883 -8.687,-6.883 ; -9.195,-6.629 -8.992,-6.629 ; -9.195,-6.604 -9.017,-6.604 ; -9.169,-6.934 -8.89,-6.934 ; -9.169,-6.579 -9.017,-6.579 ; -9.169,0.711 -8.763,0.711 ; -9.144,-6.553 -9.042,-6.553 ; -9.119,-6.96 -8.941,-6.96 ; -9.119,0.686 -8.712,0.686 ; -9.068,0.66 -8.661,0.66 ; -9.017,-6.426 -8.484,-6.426 ; -9.017,0.635 -8.636,0.635 ; -8.992,0.61 -8.585,0.61 ; -8.966,-7.087 -8.484,-7.087 ; -8.941,-6.452 -8.534,-6.452 ; -8.941,0.584 -8.56,0.584 ; -8.915,-6.477 -8.585,-6.477 ; -8.89,-7.061 -8.56,-7.061 ; -8.89,-6.502 -8.611,-6.502 ; -8.89,0.559 -8.509,0.559 ; -8.865,-7.036 -8.611,-7.036 ; -8.865,-7.01 -8.636,-7.01 ; -8.865,-6.985 -8.636,-6.985 ; -8.865,-6.96 -8.661,-6.96 ; -8.865,-6.934 -8.687,-6.934 ; -8.865,-6.553 -8.661,-6.553 ; -8.865,-6.528 -8.636,-6.528 ; -8.839,-6.604 -8.687,-6.604 ; -8.839,-6.579 -8.661,-6.579 ; -8.839,0.533 -8.484,0.533 ; -8.814,-6.807 -8.712,-6.807 ; -8.814,-6.782 -8.712,-6.782 ; -8.814,-6.756 -8.712,-6.756 ; -8.814,-6.731 -8.712,-6.731 ; -8.814,-6.706 -8.712,-6.706 ; -8.814,-6.68 -8.712,-6.68 ; -8.814,-6.655 -8.687,-6.655 ; -8.814,-6.629 -8.687,-6.629 ; -8.814,0.508 -8.433,0.508 ; -8.763,0.483 -8.407,0.483 ; -8.738,0.457 -8.382,0.457 ; -8.687,0.432 -8.331,0.432 ; -8.636,0.406 -8.306,0.406 ; -8.611,0.381 -8.28,0.381 ; -8.585,0.356 -8.23,0.356 ; -8.534,0.33 -8.204,0.33 ; -8.509,-6.858 -7.391,-6.858 ; -8.509,-6.833 -7.366,-6.833 ; -8.509,-6.68 -8.28,-6.68 ; -8.509,-6.655 -8.28,-6.655 ; -8.509,0.305 -8.153,0.305 ; -8.484,-6.909 -7.442,-6.909 ; -8.484,-6.883 -7.417,-6.883 ; -8.484,-6.629 -8.28,-6.629 ; -8.484,-6.604 -8.306,-6.604 ; -8.484,0.279 -8.128,0.279 ; -8.458,-6.934 -8.179,-6.934 ; -8.458,-6.579 -8.306,-6.579 ; -8.433,-6.553 -8.331,-6.553 ; -8.433,0.254 -8.103,0.254 ; -8.407,-6.96 -8.23,-6.96 ; -8.407,0.229 -8.077,0.229 ; -8.382,0.203 -8.052,0.203 ; -8.331,0.178 -8.026,0.178 ; -8.306,-6.426 -7.087,-6.426 ; -8.306,0.152 -8.001,0.152 ; -8.28,0.127 -7.95,0.127 ; -8.255,-7.087 -7.595,-7.087 ; -8.23,-6.452 -7.087,-6.452 ; -8.23,0.102 -7.925,0.102 ; -8.204,-6.477 -7.112,-6.477 ; -8.204,0.076 -7.899,0.076 ; -8.179,-7.061 -7.569,-7.061 ; -8.179,-6.502 -7.137,-6.502 ; -8.179,0.051 -7.874,0.051 ; -8.153,-7.036 -7.544,-7.036 ; -8.153,-7.01 -7.518,-7.01 ; -8.153,-6.985 -7.518,-6.985 ; -8.153,-6.96 -7.493,-6.96 ; -8.153,-6.934 -7.468,-6.934 ; -8.153,-6.553 -7.163,-6.553 ; -8.153,-6.528 -7.163,-6.528 ; -8.153,0.025 -7.849,0.025 ; -8.128,-6.604 -7.214,-6.604 ; -8.128,-6.579 -7.188,-6.579 ; -8.128,0 -7.823,0 ; -8.103,-6.807 -7.366,-6.807 ; -8.103,-6.782 -7.341,-6.782 ; -8.103,-6.756 -7.315,-6.756 ; -8.103,-6.731 -7.29,-6.731 ; -8.103,-6.706 -7.29,-6.706 ; -8.103,-6.68 -7.264,-6.68 ; -8.103,-6.655 -7.239,-6.655 ; -8.103,-6.629 -7.239,-6.629 ; -8.103,-0.025 -7.798,-0.025 ; -8.077,-0.051 -7.772,-0.051 ; -8.052,-0.076 -7.747,-0.076 ; -8.001,-0.102 -7.722,-0.102 ; -7.976,-0.127 -7.696,-0.127 ; -7.95,-0.152 -7.671,-0.152 ; -7.925,-0.178 -7.645,-0.178 ; -7.899,-0.203 -7.62,-0.203 ; -7.874,-0.229 -7.595,-0.229 ; -7.849,-0.254 -7.569,-0.254 ; -7.823,-0.279 -7.544,-0.279 ; -7.798,-0.305 -7.544,-0.305 ; -7.772,-0.356 -7.493,-0.356 ; -7.772,-0.33 -7.518,-0.33 ; -7.747,-0.381 -7.468,-0.381 ; -7.722,-0.406 -7.442,-0.406 ; -7.696,-0.432 -7.417,-0.432 ; -7.671,-0.457 -7.391,-0.457 ; -7.645,-0.483 -7.391,-0.483 ; -7.62,-0.508 -7.366,-0.508 ; -7.595,-0.533 -7.341,-0.533 ; -7.569,-0.584 -7.315,-0.584 ; -7.569,-0.559 -7.315,-0.559 ; -7.544,-0.61 -7.29,-0.61 ; -7.518,-0.635 -7.264,-0.635 ; -7.493,-0.686 -7.239,-0.686 ; -7.493,-0.66 -7.239,-0.66 ; -7.468,-0.711 -7.214,-0.711 ; -7.442,-0.737 -7.188,-0.737 ; -7.417,-0.787 -7.163,-0.787 ; -7.417,-0.762 -7.163,-0.762 ; -7.391,-0.813 -7.137,-0.813 ; -7.366,-0.838 -7.112,-0.838 ; -7.341,-0.889 -7.087,-0.889 ; -7.341,-0.864 -7.112,-0.864 ; -7.315,-0.914 -7.061,-0.914 ; -7.29,-0.94 -7.061,-0.94 ; -7.264,-0.991 -7.01,-0.991 ; -7.264,-0.965 -7.036,-0.965 ; -7.239,-1.041 -6.985,-1.041 ; -7.239,-1.016 -7.01,-1.016 ; -7.214,-1.067 -6.96,-1.067 ; -7.188,-1.118 -6.934,-1.118 ; -7.188,-1.092 -6.96,-1.092 ; -7.163,-1.143 -6.934,-1.143 ; -7.137,-1.194 -6.909,-1.194 ; -7.137,-1.168 -6.909,-1.168 ; -7.112,-1.245 -6.858,-1.245 ; -7.112,-1.219 -6.883,-1.219 ; -7.087,-1.27 -6.858,-1.27 ; -7.061,-1.321 -6.833,-1.321 ; -7.061,-1.295 -6.833,-1.295 ; -7.036,-1.372 -6.807,-1.372 ; -7.036,-1.346 -6.807,-1.346 ; -7.01,-5.893 -6.782,-5.893 ; -7.01,-1.422 -6.782,-1.422 ; -7.01,-1.397 -6.782,-1.397 ; -6.985,-5.867 -6.756,-5.867 ; -6.985,-5.842 -6.756,-5.842 ; -6.985,-1.473 -6.756,-1.473 ; -6.985,-1.448 -6.756,-1.448 ; -6.96,-5.817 -6.731,-5.817 ; -6.96,-5.791 -6.731,-5.791 ; -6.96,-1.524 -6.731,-1.524 ; -6.96,-1.499 -6.731,-1.499 ; -6.934,-5.766 -6.706,-5.766 ; -6.934,-5.74 -6.706,-5.74 ; -6.934,-1.575 -6.706,-1.575 ; -6.934,-1.549 -6.731,-1.549 ; -6.909,-5.715 -6.706,-5.715 ; -6.909,-5.69 -6.68,-5.69 ; -6.909,-1.651 -6.68,-1.651 ; -6.909,-1.626 -6.68,-1.626 ; -6.909,-1.6 -6.706,-1.6 ; -6.883,-5.664 -6.68,-5.664 ; -6.883,-5.639 -6.655,-5.639 ; -6.883,-5.613 -6.655,-5.613 ; -6.883,-1.702 -6.655,-1.702 ; -6.883,-1.676 -6.655,-1.676 ; -6.858,-5.588 -6.629,-5.588 ; -6.858,-5.563 -6.629,-5.563 ; -6.858,-1.753 -6.629,-1.753 ; -6.858,-1.727 -6.629,-1.727 ; -6.833,-5.537 -6.629,-5.537 ; -6.833,-5.512 -6.604,-5.512 ; -6.833,-1.803 -6.604,-1.803 ; -6.833,-1.778 -6.629,-1.778 ; -6.807,-5.486 -6.604,-5.486 ; -6.807,-5.461 -6.579,-5.461 ; -6.807,-5.436 -6.579,-5.436 ; -6.807,-1.88 -6.579,-1.88 ; -6.807,-1.854 -6.579,-1.854 ; -6.807,-1.829 -6.604,-1.829 ; -6.782,-5.41 -6.579,-5.41 ; -6.782,-5.385 -6.553,-5.385 ; -6.782,-1.956 -6.553,-1.956 ; -6.782,-1.93 -6.553,-1.93 ; -6.782,-1.905 -6.579,-1.905 ; -6.756,-5.359 -6.553,-5.359 ; -6.756,-5.334 -6.553,-5.334 ; -6.756,-5.309 -6.528,-5.309 ; -6.756,-2.007 -6.528,-2.007 ; -6.756,-1.981 -6.553,-1.981 ; -6.731,-5.283 -6.528,-5.283 ; -6.731,-5.258 -6.528,-5.258 ; -6.731,-5.232 -6.502,-5.232 ; -6.731,-2.083 -6.502,-2.083 ; -6.731,-2.057 -6.528,-2.057 ; -6.731,-2.032 -6.528,-2.032 ; -6.706,-5.207 -6.502,-5.207 ; -6.706,-5.182 -6.502,-5.182 ; -6.706,-5.156 -6.477,-5.156 ; -6.706,-2.159 -6.477,-2.159 ; -6.706,-2.134 -6.502,-2.134 ; -6.706,-2.108 -6.502,-2.108 ; -6.68,-5.131 -6.477,-5.131 ; -6.68,-5.105 -6.477,-5.105 ; -6.68,-5.08 -6.452,-5.08 ; -6.68,-2.261 -6.452,-2.261 ; -6.68,-2.235 -6.477,-2.235 ; -6.68,-2.21 -6.477,-2.21 ; -6.68,-2.184 -6.477,-2.184 ; -6.655,-5.055 -6.452,-5.055 ; -6.655,-5.029 -6.452,-5.029 ; -6.655,-5.004 -6.452,-5.004 ; -6.655,-4.978 -6.426,-4.978 ; -6.655,-2.337 -6.426,-2.337 ; -6.655,-2.311 -6.452,-2.311 ; -6.655,-2.286 -6.452,-2.286 ; -6.629,-4.953 -6.426,-4.953 ; -6.629,-4.928 -6.426,-4.928 ; -6.629,-4.902 -6.426,-4.902 ; -6.629,-4.877 -6.401,-4.877 ; -6.629,-2.438 -6.401,-2.438 ; -6.629,-2.413 -6.426,-2.413 ; -6.629,-2.388 -6.426,-2.388 ; -6.629,-2.362 -6.426,-2.362 ; -6.604,-4.851 -6.401,-4.851 ; -6.604,-4.826 -6.401,-4.826 ; -6.604,-4.801 -6.401,-4.801 ; -6.604,-4.775 -6.375,-4.775 ; -6.604,-2.54 -6.375,-2.54 ; -6.604,-2.515 -6.401,-2.515 ; -6.604,-2.489 -6.401,-2.489 ; -6.604,-2.464 -6.401,-2.464 ; -6.579,-4.75 -6.375,-4.75 ; -6.579,-4.724 -6.375,-4.724 ; -6.579,-4.699 -6.375,-4.699 ; -6.579,-4.674 -6.375,-4.674 ; -6.579,-2.642 -6.35,-2.642 ; -6.579,-2.616 -6.375,-2.616 ; -6.579,-2.591 -6.375,-2.591 ; -6.579,-2.565 -6.375,-2.565 ; -6.553,-4.648 -6.35,-4.648 ; -6.553,-4.623 -6.35,-4.623 ; -6.553,-4.597 -6.35,-4.597 ; -6.553,-4.572 -6.35,-4.572 ; -6.553,-4.547 -6.35,-4.547 ; -6.553,-4.521 -6.325,-4.521 ; -6.553,-2.794 -6.325,-2.794 ; -6.553,-2.769 -6.35,-2.769 ; -6.553,-2.743 -6.35,-2.743 ; -6.553,-2.718 -6.35,-2.718 ; -6.553,-2.692 -6.35,-2.692 ; -6.553,-2.667 -6.35,-2.667 ; -6.528,-4.496 -6.325,-4.496 ; -6.528,-4.47 -6.325,-4.47 ; -6.528,-4.445 -6.325,-4.445 ; -6.528,-4.42 -6.325,-4.42 ; -6.528,-4.394 -6.325,-4.394 ; -6.528,-4.369 -6.299,-4.369 ; -6.528,-2.921 -6.325,-2.921 ; -6.528,-2.896 -6.325,-2.896 ; -6.528,-2.87 -6.325,-2.87 ; -6.528,-2.845 -6.325,-2.845 ; -6.528,-2.819 -6.325,-2.819 ; -6.502,-4.343 -6.299,-4.343 ; -6.502,-4.318 -6.299,-4.318 ; -6.502,-4.293 -6.299,-4.293 ; -6.502,-4.267 -6.299,-4.267 ; -6.502,-4.242 -6.299,-4.242 ; -6.502,-4.216 -6.299,-4.216 ; -6.502,-4.191 -6.299,-4.191 ; -6.502,-3.124 -6.299,-3.124 ; -6.502,-3.099 -6.299,-3.099 ; -6.502,-3.073 -6.299,-3.073 ; -6.502,-3.048 -6.299,-3.048 ; -6.502,-3.023 -6.299,-3.023 ; -6.502,-2.997 -6.299,-2.997 ; -6.502,-2.972 -6.299,-2.972 ; -6.502,-2.946 -6.299,-2.946 ; -6.477,-4.166 -6.274,-4.166 ; -6.477,-4.14 -6.274,-4.14 ; -6.477,-4.115 -6.274,-4.115 ; -6.477,-4.089 -6.274,-4.089 ; -6.477,-4.064 -6.274,-4.064 ; -6.477,-4.039 -6.274,-4.039 ; -6.477,-4.013 -6.274,-4.013 ; -6.477,-3.988 -6.274,-3.988 ; -6.477,-3.962 -6.274,-3.962 ; -6.477,-3.937 -6.274,-3.937 ; -6.477,-3.912 -6.274,-3.912 ; -6.477,-3.886 -6.274,-3.886 ; -6.477,-3.861 -6.274,-3.861 ; -6.477,-3.835 -6.274,-3.835 ; -6.477,-3.81 -6.274,-3.81 ; -6.477,-3.785 -6.274,-3.785 ; -6.477,-3.759 -6.274,-3.759 ; -6.477,-3.734 -6.274,-3.734 ; -6.477,-3.708 -6.274,-3.708 ; -6.477,-3.683 -6.274,-3.683 ; -6.477,-3.658 -6.274,-3.658 ; -6.477,-3.632 -6.274,-3.632 ; -6.477,-3.607 -6.274,-3.607 ; -6.477,-3.581 -6.274,-3.581 ; -6.477,-3.556 -6.274,-3.556 ; -6.477,-3.531 -6.274,-3.531 ; -6.477,-3.505 -6.274,-3.505 ; -6.477,-3.48 -6.274,-3.48 ; -6.477,-3.454 -6.274,-3.454 ; -6.477,-3.429 -6.274,-3.429 ; -6.477,-3.404 -6.274,-3.404 ; -6.477,-3.378 -6.274,-3.378 ; -6.477,-3.353 -6.274,-3.353 ; -6.477,-3.327 -6.274,-3.327 ; -6.477,-3.302 -6.274,-3.302 ; -6.477,-3.277 -6.274,-3.277 ; -6.477,-3.251 -6.274,-3.251 ; -6.477,-3.226 -6.274,-3.226 ; -6.477,-3.2 -6.274,-3.2 ; -6.477,-3.175 -6.274,-3.175 ; -6.477,-3.15 -6.274,-3.15
  lines w0.508: 0.81,6.424 cw(c-0.719,8.635) 0.82,10.838
  text "Hands" at -2.642,8.89 h0.89
  text "Free" at -1.372,7.62 h0.89
Top Solder:
  circle w0.254: c-0.64,8.636 r3.205
  lines w0.508: 0.81,6.424 cw(c-0.719,8.635) 0.82,10.838
  text "Hands" at -2.642,8.89 h0.89
  text "Free" at -1.372,7.62 h0.89

## MDE_MPU6050 [mil]
pads (4):
  round 59 hole 35.43: 1(50,-170) 2(50,-270) 3(50,-370) 4(50,-470)
Top Overlay:
  circle w30: c50,-570 r10
  circle w10: c50,-570 r36.06
  lines w10: 0,-525 545,-525 545,-115 0,-115 ; 0,-510 530,-510 530,-130 0,-130 ; 10,-510 10,-130 15,-130 ; 0,-115 620,-115 620,-920 0,-920 0,-115
  text "SDA" at 125,-490 h45
  text "VCC3.3" at 125,-195 h45
  text "GND" at 125,-295 h45
  text "SCL" at 125,-390 h45
  text "MPU6050" at 20,-900 h45